# Altium schematic symbol library TranFet.SchLib: 8 symbols
Pins are listed as number, name and electrical type; pins without a type are passive.

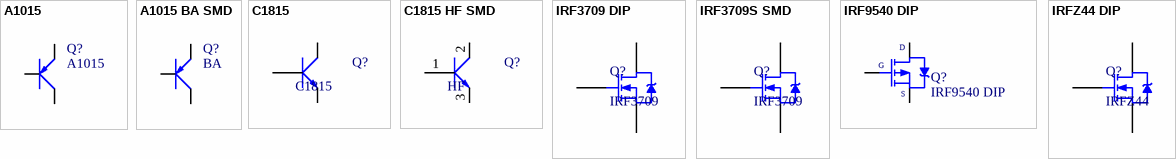
[diagram p0: symbols A1015 to IRFZ44 DIP]

## A1015
designator Q?
PNP 600mW, ECB; Value: A1015
footprint TO92 (TO-92)
pins: 1 E, 2 C, 3 B

## A1015 BA SMD
designator Q?, comment BA
PNP 600mW, ECB
footprint SOT23
pins: 1 B, 2 E, 3 C

## C1815
designator Q?
NPN transistor; Value: C9014
footprint TO92 (TO-92)
pins: 1 E, 2 C, 3 B

## C1815 HF SMD
designator Q?, comment HF
NPN transistor; Value: C9014
footprint SOT23
pins: 1 B, 2 C, 3 E

## IRF3709 DIP
designator Q?, comment IRF3709
N-Channel Power MOSFET
footprint TO220 (TO-220)
pins: 1 G, 2 D, 3 S

## IRF3709S SMD
designator Q?, comment IRF3709
N-Channel Power MOSFET
footprint D2PAK
pins: 1 G, 2 D, 3 S

## IRF9540 DIP
designator Q?
P-Channel Power MOSFET; Note: Pin 2 is electrically connected to pin 4.; Published: 8-Jun-2000; LatestRevisionDate: 17-Jul-2002; LatestRevisionNote: Re-released for DXP Platform.; DatasheetVersion: PD-9.421C; PackageVersion: Feb-1997; PackageReference: TO-220AB; Publisher: Altium Limited; PackageDescription: TO, Thru-Hole, Vertical, Heatsink Mounted; 3 In-Line Leads; Pitch 2.54 mm; ComponentLink1Description: Manufacturer Link; ComponentLink1URL: http://www.irf.com/; ComponentLink2Description: Datasheet; ComponentLink2URL: http://www.irf.com/product-info/datasheets/data/irf9540.pdf
footprint TO220 (TO-220)
pins: 1 G, 2 D, 3 S

## IRFZ44 DIP
designator Q?, comment IRFZ44
N-Channel Power MOSFET
footprint TO220 (TO-220)
pins: 1 G, 2 D, 3 S